# Altium footprint library LED.PcbLib: 25 footprints (part 1 of 2)
Each footprint in its own frame and in the unit in brackets; x right, y up, seen from the top. Pads: shape width x height; smd on the part's side, far side on the other; paste and mask are expansions set on the pad; w line width, h text height; cw(c..) or ccw(c..) is an arc to the next point about the centre after c.
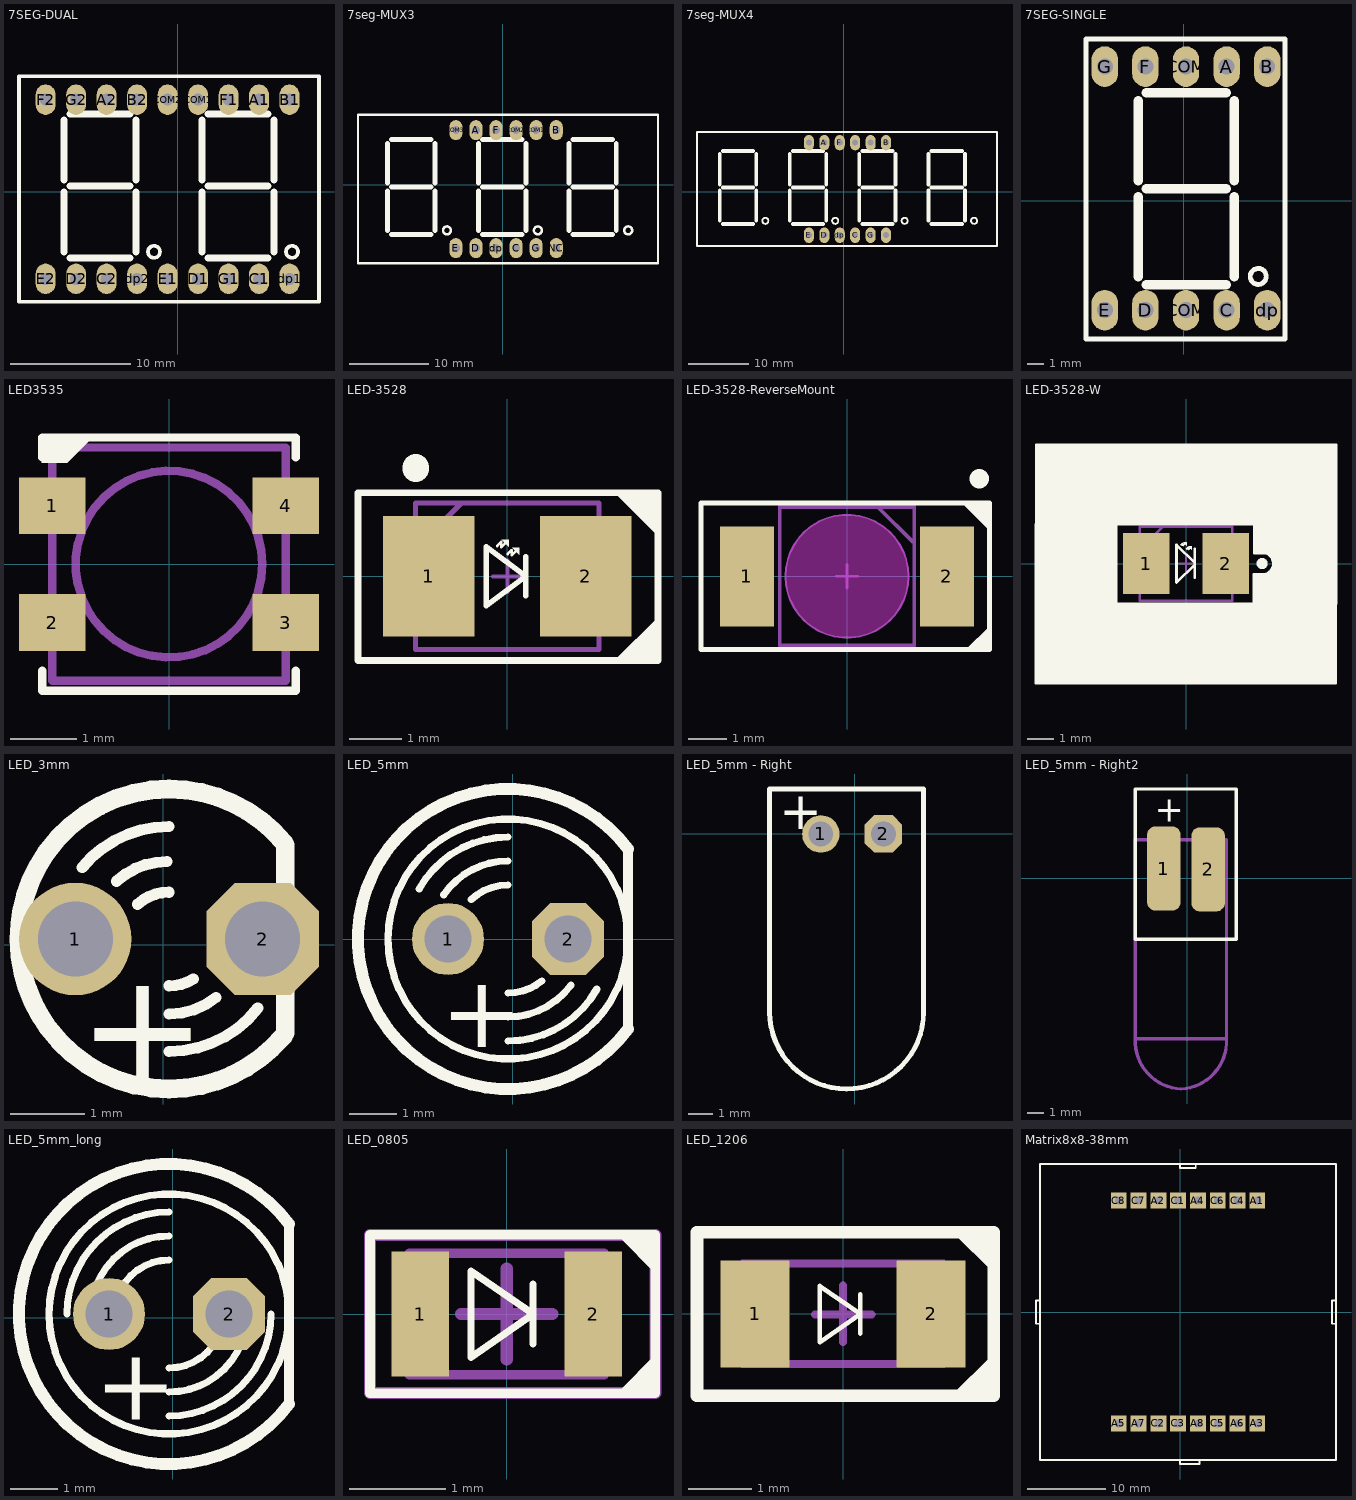
[diagram p0: the footprints below, top view; thin cyan lines are the x and y axes]

## 7SEG-DUAL [mil]
height 314.96
pads (18):
  oval 65x100 hole 39.37: A1(267.4,302.4) A2(-232.6,302.4) B1(367.4,302.4) B2(-132.6,302.4) C1(267.4,-285.1) C2(-232.6,-285.1) COM1(67.4,302.4) COM2(-32.6,302.4) D1(67.4,-285.1) D2(-332.6,-285.1) dp1(367.4,-285.1) dp2(-132.6,-285.1) E1(-32.6,-285.1) E2(-432.6,-285.1) F1(167.4,302.4) F2(-432.6,302.4) G1(167.4,-285.1) G2(-332.6,302.4)
Top Overlay:
  circle w12: c375.55,-196.67 r19.68
  circle w12: c-77.21,-196.67 r19.68
  lines w12: -519.97,-360.1 463.97,-360.1 463.97,378.88 -519.97,378.9 -519.97,-360.1
  lines w23.62: -372.49,-197.3 -372.49,-0.45 ; -372.49,38.92 -372.49,235.77 ; -352.8,-216.99 -155.95,-216.99 ; -352.8,19.23 -155.95,19.23 ; -352.8,255.45 -155.95,255.45 ; -136.26,-197.3 -136.26,-0.45 ; -136.26,38.92 -136.26,235.77 ; 80.27,-197.3 80.27,-0.45 ; 80.27,38.92 80.27,235.77 ; 99.96,-216.99 296.81,-216.99 ; 99.96,19.23 296.81,19.23 ; 99.96,255.45 296.81,255.45 ; 316.49,-197.3 316.49,-0.45 ; 316.49,38.92 316.49,235.77

## 7seg-MUX3 [mil]
height 314.96
pads (12):
  oval 65x100 hole 39.37: A(-132.6,272.4) B(267.4,272.4) C(67.4,-315.1) COM1(167.4,272.4) COM2(67.4,272.4) COM3(-232.6,272.4) D(-132.6,-315.1) dp(-32.6,-315.1) E(-232.6,-315.1) F(-32.6,272.4) G(167.4,-315.1) NC(267.4,-315.1)
Top Overlay:
  circle w12: c625.55,-226.67 r19.68
  circle w12: c-277.21,-226.67 r19.68
  circle w12: c175.55,-226.67 r19.68
  lines w12: -719.97,-390.1 -719.97,348.9 773.97,348.88 773.97,-390.1 -719.97,-390.1
  lines w23.62: -572.49,-227.3 -572.49,-30.45 ; -572.49,8.92 -572.49,205.77 ; -552.8,-246.99 -355.95,-246.99 ; -552.8,-10.77 -355.95,-10.77 ; -552.8,225.45 -355.95,225.45 ; -336.26,-227.3 -336.26,-30.45 ; -336.26,8.92 -336.26,205.77 ; -119.73,-227.3 -119.73,-30.45 ; -119.73,8.92 -119.73,205.77 ; -100.04,-246.99 96.81,-246.99 ; -100.04,-10.77 96.81,-10.77 ; -100.04,225.45 96.81,225.45 ; 116.49,-227.3 116.49,-30.45 ; 116.49,8.92 116.49,205.77 ; 330.27,-227.3 330.27,-30.45 ; 330.27,8.92 330.27,205.77 ; 349.96,-246.99 546.81,-246.99 ; 349.96,-10.77 546.81,-10.77 ; 349.96,225.45 546.81,225.45 ; 566.49,-227.3 566.49,-30.45 ; 566.49,8.92 566.49,205.77

## 7seg-MUX4 [mil]
height 314.96
pads (12):
  oval 65x100 hole 39.37: A(-125,320) B(275,320) C(75,-280) COM1(275,-280) COM2(175,320) COM3(75,320) COM4(-225,320) D(-125,-280) dp(-25,-280) E(-225,-280) F(-25,320) G(175,-280)
Top Overlay:
  circle w12: c845.55,-186.67 r19.68
  circle w12: c-54.45,-186.67 r19.68
  circle w12: c-507.21,-186.67 r19.68
  circle w12: c395.55,-186.67 r19.68
  lines w12: -949.97,-350.1 993.97,-350.1 993.97,388.88 -949.97,388.9 -949.97,-350.1
  lines w23.62: -802.49,-187.3 -802.49,9.55 ; -802.49,48.92 -802.49,245.77 ; -782.8,-206.99 -585.95,-206.99 ; -782.8,29.23 -585.95,29.23 ; -782.8,265.45 -585.95,265.45 ; -566.26,-187.3 -566.26,9.55 ; -566.26,48.92 -566.26,245.77 ; -349.73,-187.3 -349.73,9.55 ; -349.73,48.92 -349.73,245.77 ; -330.04,-206.99 -133.19,-206.99 ; -330.04,29.23 -133.19,29.23 ; -330.04,265.45 -133.19,265.45 ; -113.51,-187.3 -113.51,9.55 ; -113.51,48.92 -113.51,245.77 ; 100.27,-187.3 100.27,9.55 ; 100.27,48.92 100.27,245.77 ; 119.96,-206.99 316.81,-206.99 ; 119.96,29.23 316.81,29.23 ; 119.96,265.45 316.81,265.45 ; 336.49,-187.3 336.49,9.55 ; 336.49,48.92 336.49,245.77 ; 550.27,-187.3 550.27,9.55 ; 550.27,48.92 550.27,245.77 ; 569.96,-206.99 766.81,-206.99 ; 569.96,29.23 766.81,29.23 ; 569.96,265.45 766.81,265.45 ; 786.49,-187.3 786.49,9.55 ; 786.49,48.92 786.49,245.77
3D body "SW3dPS-ldq-n516r1.STEP": height 354.33, standoff -98.43, extent -965.15,-354.01 1015.16,394.02

## 7SEG-SINGLE [mil]
height 314.96
pads (10):
  oval 65x100 hole 39.37: A(105,330) B(205,330) C(105,-270) COM(5,-270) COM(5,330) D(-95,-270) dp(205,-270) E(-195,-270) F(-95,330) G(-195,330)
Top Overlay:
  circle w12: c182.91,-187.03 r19.68
  lines w12: -241.11,-341.08 248.46,-341.08 248.46,397.89 -241.11,397.92 -241.11,-341.08
  lines w23.62: -112.37,-187.66 -112.37,9.19 ; -112.37,48.56 -112.37,245.41 ; -92.68,-207.35 104.17,-207.35 ; -92.68,28.87 104.17,28.87 ; -92.68,265.09 104.17,265.09 ; 123.85,-187.66 123.85,9.19 ; 123.85,48.56 123.85,245.41
3D body "User Library-KEM-5611.STEP": height 393.7, standoff -169.29, extent -244.03,-345.03 252.03,403

## LED3535 [mm]
pads (4):
  rect 1x0.85 smd: 1(-1.75,0.875) 2(-1.75,-0.875) 3(1.75,-0.875) 4(1.75,0.875)
Top Overlay:
  region: -1.905,1.905 -1.905,1.524 -1.524,1.524 -1.143,1.905
  lines w0.127: -1.9,-1.6 -1.9,-1.9 1.9,-1.9 1.9,-1.6 ; -1.9,1.6 -1.9,1.9 1.9,1.9 1.9,1.6
Mechanical 4:
  circle w0.127: c0,0 r1.4
  circle w0.127: c0,0 r1.4
  lines w0.127: -1.75,-1.75 1.75,-1.75 ; -1.75,-1.75 -1.75,1.75 ; -1.75,-1.75 1.75,-1.75 ; -1.75,-1.75 -1.75,1.75 ; -1.75,1.75 1.75,1.75 ; -1.75,1.75 1.75,1.75 ; 1.75,-1.75 1.75,1.75 ; 1.75,-1.75 1.75,1.75

## LED-3528 [mm]
pads (2):
  rect 1.75x2.3 smd: 1(-1.5,0) 2(1.5,0)
Top Overlay:
  region: 2.877,1.593 2.052,1.593 2.877,0.768
  region: 2.877,-1.607 2.877,-0.782 2.052,-1.607
  region: 0.09,0.541 0.225,0.541 0.225,0.406
  region: -0.11,0.696 0.024,0.696 0.024,0.562
  lines w0.051: -0.193,0.579 -0.118,0.654 -0.118,0.554 -0.043,0.629 ; 0.008,0.424 0.083,0.499 0.083,0.399 0.158,0.474
  lines w0.102: 0.35,-0.375 0.35,0.375 ; -0.4,-0.563 -0.4,0.562 0.35,0 -0.4,-0.563
  lines w0.127: -2.85,-1.607 2.877,-1.607 2.877,1.593 -2.282,1.593 -2.85,1.593 -2.85,1.025 -2.85,-1.607
  lines w0.508: -1.75,2.05 -1.75,2.075
Mechanical 1:
  lines w0.076: -1.739,0.536 -0.884,1.391 ; -1.749,-1.4 1.749,-1.4 1.749,1.4 -1.749,1.4 -1.749,-1.4
Mechanical 15:
  lines w0.076: -0.274,0 0.274,0 ; 0,-0.3 0,0.3
  lines w0.1: -1.75,0.525 -0.875,1.4 ; -1.75,-1.4 -1.75,1.4 1.75,1.4 1.75,-1.4 -1.75,-1.4
3D body "User Library-VSMY3850_PLCC-2.STEP": height 1.65, standoff 0, extent -1.749,-1.4 1.749,1.4

## LED-3528-ReverseMount [mm] "Reverse Mount SMD LED 3528 PLCC Type / AA3528SYCKT09"
pads (2):
  rect 1.4x2.6 smd: 1(-2.6,0) 2(2.6,0)
Top Overlay:
  region: 3.7,-1.89 3.7,-1.31 3.12,-1.89
  region: 3.69,1.89 3.01,1.89 3.69,1.21
  lines w0.127: -3.8,-1.9 3.7,-1.9 3.7,1.9 -3.8,1.9 -3.8,-1.9
  lines w0.508: 3.443,2.537 3.444,2.533
Keep-Out Layer:
  board cut-out: 0,-1.6 -0.158,-1.6 -0.467,-1.539 -0.758,-1.418 -1.02,-1.243 -1.243,-1.02 -1.418,-0.758 -1.539,-0.467 -1.6,-0.158 -1.6,0 -1.6,0.158 -1.539,0.467 -1.418,0.758 -1.243,1.02 -1.02,1.243 -0.758,1.418 -0.467,1.539 -0.158,1.6 0,1.6 0.158,1.6 0.467,1.539 0.758,1.418 1.02,1.243 1.243,1.02 1.418,0.758 1.539,0.467 1.6,0.158 1.6,0 1.6,-0.158 1.539,-0.467 1.418,-0.758 1.243,-1.02 1.02,-1.243 0.758,-1.418 0.467,-1.539 0.158,-1.6
Mechanical 1:
  circle w0.05: c0,0 r1.6
  lines w0.076: 0.803,1.803 1.745,0.861 ; -1.749,-1.8 1.749,-1.8 1.749,1.8 -1.749,1.8 -1.749,-1.8
Mechanical 15:
  lines w0.076: -0.274,0 0.274,0 ; 0,-0.3 0,0.3
  lines w0.1: 0.825,1.775 1.7,0.9 ; -1.75,-1.8 -1.75,1.8 1.75,1.8 1.75,-1.8 0.475,-1.8 -0.475,-1.8 -1.75,-1.8
3D body "AA3528-09.STEP": height -0.55, standoff -2.45, extent -2.589,-1.366 2.611,1.434

## LED-3528-W [mm]
pads (2):
  rect 1.75x2.3 smd: 1(-1.5,0) 2(1.5,0)
Top Overlay:
  circle w0.3: c2.875,0.003 r0.057
  region: 3.555,-0.366 2.563,-0.366 2.563,-1.626 3.555,-1.626
  region: 3.702,1.497 2.589,1.497 2.589,0.367 3.702,0.367
  region: 5.663,-1.473 -5.668,-1.473 -5.668,-4.524 5.663,-4.524
  region: -2.592,4.499 -5.666,4.499 -5.666,-1.524 -2.592,-1.524
  region: 5.666,4.499 -3.024,4.499 -3.024,1.448 5.666,1.448
  region: 5.666,1.575 3.253,1.575 3.253,-1.524 5.666,-1.524
  region: 3.136,-0.271 3.136,-0.509 3.261,-0.509 3.261,-0.271
  region: 3.198,-0.185 3.198,-0.423 3.322,-0.423 3.322,-0.185
  region: 3.233,0.407 3.233,0.169 3.357,0.169 3.357,0.407
  rectangle: 3.125,0.28 3.363,0.405
  region: 0.088,0.662 0.222,0.662 0.222,0.527
  region: -0.113,0.817 0.022,0.817 0.022,0.683
  lines w0.051: -0.196,0.7 -0.121,0.775 -0.121,0.675 -0.046,0.75 ; 0.005,0.544 0.08,0.619 0.08,0.519 0.155,0.594
  lines w0.1: 2.563,-1.496 2.563,-1.421 2.563,-0.407 2.965,-0.407 ccw(c2.875,0.003) 3.011,0.401 2.575,0.401 2.575,1.483 ; 2.666,4.499 2.666,1.499 5.666,1.499 ; -5.668,-1.524 -5.668,1.499 -5.666,1.499 -5.666,4.499 -2.668,4.499 5.666,4.499 5.666,1.499 ; -5.668,-1.524 -5.668,-4.524 -2.668,-4.524 ; -5.668,-1.524 -2.668,-1.524 -2.668,-4.524 ; -2.668,-4.524 2.666,-4.524 ; 2.666,-4.524 5.663,-4.524 5.663,-1.524 5.666,-1.524 ; 2.666,-4.524 2.666,-1.524 5.666,-1.524 ; 5.666,-1.524 5.666,1.499
  lines w0.102: 0.331,-0.525 0.331,0 ; 0.331,0.551 0.331,0.025 ; 0.331,0.025 0.331,-0.025 -0.357,-0.713 -0.357,0.713 0.331,0.025
Mechanical 1:
  lines w0.076: -1.749,-1.4 1.749,-1.4 1.749,1.4 -1.749,1.4 -1.749,-1.4
Mechanical 15:
  lines w0.076: -0.274,0 0.274,0 ; 0,-0.3 0,0.3
  lines w0.1: -1.75,0.525 -0.875,1.4 ; -1.75,-1.4 1.75,-1.4 1.75,1.4 -1.75,1.4 -1.75,-1.4
3D body "User Library-VSMY3850_PLCC-2.STEP": height 1.65, standoff 0, extent -1.749,-1.4 1.749,1.4

## LED_3mm [mil]
pads (2):
  round 60 hole 40: 1(-47,3)
  oct 60x60 hole 40: 2(53,3)
Top Overlay:
  lines w6: -43.3,41.16 cw(c3,3) 3,63 ; -24.99,33.84 cw(c1.97,4.29) 1.97,44.29 ; -13.82,21.5 cw(c3,3) 3,28 ; 3,-57 ccw(c3,3) 50.36,-33.83 ; 3,-37 ccw(c3,3) 28.05,-28.19 ; 3,-22 ccw(c3,3) 15.95,-18.39
  lines w10: -67.59,40.65 cw(c3,3) 3,83 cw(c3,3) 64.46,54.22 ; -67.44,40.93 ccw(c3,3) -77,3 ccw(c3,3) -65.13,-38.92 ; -66.46,-36.69 ccw(c3,3) 3,-77 ccw(c3,3) 64.07,-48.68 ; 65,-47 65,53
  text "+" at -45.28,-73.82 h60
3D body "SW3DPS-LED DIP 3MM-DEFAULT.STEP": height 255.91, standoff -78.74, extent -72.9,-74 64.9,75.61

## LED_5mm [mil]
height 472.44
pads (2):
  round 60 hole 39.37: 1(-54,0)
  oct 60x60 hole 39.37: 2(46,0)
Top Overlay:
  circle w6: c-4,0 r100
  lines w6: -78.04,41.75 cw(c-4,0) -4,85 ; -57.54,36.86 cw(c-4,0) -4,65 ; -34.67,32.93 cw(c-4,0) -4,45 ; -4,-85 ccw(c-4,0) 69.99,-41.83 ; -4,-65 ccw(c-4,0) 48.38,-38.49 ; -4,-45 ccw(c-4,0) 24.25,-35.03
  lines w8: 96,-75 96,75
  lines w10: 96,-75 cw(c-4,0) 96,75
  text "+" at -60,-90 h60
3D body "LED-short.stp": height 519.68, standoff -66.93, extent -120.17,-113.17 92.43,115.17

## LED_5mm - Right [mil]
height 472.44
pads (2):
  round 60 hole 39.37: 1(-54,0)
  oct 60x60 hole 39.37: 2(46,0)
Top Overlay:
  lines w7.87: 110.05,-284.66 110.05,-241.78 cw(c110.68,-241.78) 110.24,-241.34 110.24,71.85 -135.83,71.85 -135.83,-284.66 ccw(c-12.8,-284.45) 110.24,-284.66
  text "+" at -120.91,7.88 h60
3D body "ALSRobot-LED Red 5mm V.step": height 268.08, standoff -86.22, extent -123.03,-412.09 99.41,9.91

## LED_5mm - Right2 [mm]
height 12
pads (2):
  rrect50% 2x5 smd: 1(-1.375,0.575) 2(1.25,0.525)
Top Overlay:
  lines w0.2: -3.075,-3.638 -3.075,5.3 2.925,5.3 2.925,-3.638 -3.075,-3.638
  text "+" at -1.921,3.35 h1.52
Mechanical 1:
  lines w0.2: -3.075,-9.55 ccw(c-0.232,-9.682) -0.365,-12.525 ccw(c-0.497,-9.682) 2.345,-9.55 ; -3.075,-9.55 2.345,-9.55 ; -3.075,-9.55 -3.075,2.275 2.345,2.275 2.345,-9.55
3D body "User Library-LEDd5G.STEP": height 3.31, standoff -2.71, extent -3.075,-12.525 2.345,2.275

## LED_5mm_long [mil]
height 551.18
pads (2):
  round 60 hole 39.37: 1(-53,3)
  oct 60x60 hole 39.37: 2(47,3)
Top Overlay:
  circle w6: c-3,3 r100
  lines w6: -88,3 cw(c-3,3) -3,88 ; -68,3 cw(c-3,3) -3,68 ; -48,3 cw(c-3,3) -3,48 ; -3,-82 ccw(c-3,3) 82,3 ; -3,-62 ccw(c-3,3) 62,3 ; -3,-42 ccw(c-3,3) 42,3
  lines w8: 97,-72 97,78
  lines w10: 97,-72 cw(c-3,3) 97,78
  text "+" at -65,-85 h60
3D body "LED-long.stp": height 566.93, standoff -66.93, extent -119.17,-111.17 93.43,117.17

## LED_0805 [mm]
height 2.25
pads (2):
  rect 0.6x1.3 smd: 1(-0.9,0) 2(0.9,0)
Top Overlay:
  region: 1.577,0.4 1.152,0.825 1.577,0.825
  region: 1.152,-0.825 1.577,-0.4 1.577,-0.825
  lines w0.076: 0.275,-0.313 0.275,0.312 ; -0.373,-0.451 -0.373,0.449 0.275,0 -0.373,-0.451
  lines w0.1: -1.425,-0.825 -1.425,0.825 1.55,0.825 1.55,-0.825 -1.425,-0.825
Mechanical 1:
  lines w0.1: -1.016,-0.635 -1.016,0.635 1.016,0.635 1.016,-0.635 -1.016,-0.635
Mechanical 15:
  lines w0.127: -0.475,0 0.475,0 ; 0,-0.475 0,0.475 ; -1.425,-0.825 1.549,-0.825 1.549,0.825 -1.425,0.825 -1.425,-0.825
3D body "SW3dPS-led805.STEP": height 1.1, standoff -0.01, extent -1.016,-0.635 1.016,0.635

## LED_1206 [mm]
height 1.1
pads (2):
  rect 1.1x1.7 smd: 1(-1.4,0) 2(1.4,0)
Top Overlay:
  region: 1.674,-1.351 2.426,-1.351 2.426,-0.599
  region: 2.45,0.597 2.45,1.35 1.697,1.35
  lines w0.076: 0.275,-0.313 0.275,0.312 ; -0.373,-0.451 -0.373,0.449 0.275,0 -0.373,-0.451
  lines w0.2: -2.325,-1.3 2.4,-1.3 2.4,1.3 -2.325,1.3 -2.325,-1.3
Mechanical 1:
  lines w0.127: -1.6,-0.8 -1.6,0.8 1.6,0.8 1.6,-0.8 -1.6,-0.8
Mechanical 15:
  lines w0.127: -0.45,-0.005 0.45,-0.005 ; 0,-0.45 0,0.45 ; -2.325,-1.3 -2.325,1.308 2.425,1.308 2.425,-1.3 -2.325,-1.3
3D body "User Library-LED 1206 BLUE.STEP": height 1.1, standoff 0, extent -1.6,-0.8 1.6,0.8

## Matrix8x8-38mm [mil]
pads (16):
  rect 80x80 hole 40: A1(389.76,562.99) A2(-110.24,562.99) A3(389.76,-562.99) A4(89.76,562.99) A5(-310.24,-562.99) A6(289.76,-562.99) A7(-210.24,-562.99) A8(89.76,-562.99) C1(-10.24,562.99) C2(-110.24,-562.99) C3(-10.24,-562.99) C4(289.76,562.99) C5(189.76,-562.99) C6(189.76,562.99) C7(-210.24,562.99) C8(-310.24,562.99)
Top Overlay:
  lines w10: -708.66,-59.06 -728.35,-59.06 -728.35,-39.37 -728.35,59.06 -708.66,59.06 ; 0,-748.03 0,-767.72 98.43,-767.72 98.43,-748.03 ; 0,748.03 0,728.35 78.74,728.35 78.74,748.03 ; 787.4,-59.06 767.72,-59.06 767.72,-39.37 767.72,59.06 787.4,59.06 ; -708.66,-748.03 787.4,-748.03 787.4,748.03 -708.66,748.03 -708.66,-748.03